# Altium schematic symbol library Transistor_FET.SchLib: 2 symbols
Pins are listed as number, name and electrical type; pins without a type are passive.

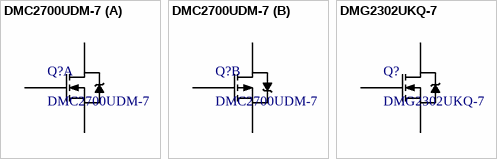
[diagram p0: symbols DMC2700UDM-7 to DMG2302UKQ-7]

## DMC2700UDM-7
designator Q?
Mosfet Array N and P-Channel 20V 1.34A, 1.14A 1.12W Surface Mount SOT-26; Manufacturer 1: Diodes Incorporated; Vgs (Max): ±6 V; Type: NMOS/PMOS; Rds On (Max) @ Id, Vgs: 400 mOhm @ 600 mA, 4.5 V; Vgs(th) (Max) @ Id: 1 V @ 250 µA; Input Capacitance (Ciss) (Max) @ Vds: 60.67 pF @ 16 V; Gate Charge (Qg) (Max) @ Vgs: 0.74 nC @ 4.5 V; Supplier 1: Digi-Key; Manufacturer Part Number 1: DMC2700UDM-7; Supplier Part Number 1: DMC2700UDM-7CT-ND; Current - Continuous Drain (Id) @ 25°C: 1.34 A, 1.14 A; Drain to Source Voltage (Vdss): 20 V; Technology: MOSFET; Power Dissipation (Max): 1.12 W; Operating Temperature: -55°C ~ 150°C (TJ)
footprint SOT95P280X145-6N (SOT23, 6-Leads, Body 3.00x2.80mm, Pitch 0.95mm, IPC Medium Density)
part A pins: 1 G1, 5 S1, 6 D1
part B pins: 2 S2, 3 G2, 4 D2

## DMG2302UKQ-7
designator Q?
N-Channel 20 V 2.8A (Ta) 660mW (Ta) Surface Mount SOT-23-3; Manufacturer 1: Diodes Incorporated; Drain to Source Voltage (Vdss): 20 V; Drive Voltage (Max Rds On, Min Rds On): 2.5 V, 4.5 V; Vgs (Max): ±12 V; Type: NMOS; Rds On (Max) @ Id, Vgs: 90 mOhm @ 3.6 A, 4.5 V; Vgs(th) (Max) @ Id: 1 V @ 250 µA; Input Capacitance (Ciss) (Max) @ Vds: 130 pF @ 10 V; Gate Charge (Qg) (Max) @ Vgs: 2.8 nC @ 10 V; Supplier 1: Digi-Key; Manufacturer Part Number 1: DMG2302UKQ-7; Supplier Part Number 1: 31-DMG2302UKQ-7CT-ND; Current - Continuous Drain (Id) @ 25°C: 2.8 A (Ta); Technology: MOSFET; Power Dissipation (Max): 660 mW (Ta); Operating Temperature: -55°C ~ 150°C (TJ)
footprint SOT95P240X110-3N (SOT23, 3-Leads, Body 2.90x2.40mm, Pitch 0.95mm, IPC Medium Density)
pins: 1 G, 2 S, 3 D